# Altium schematic symbol library rmstodc.SchLib: 12 symbols
Pins are listed as number, name and electrical type; pins without a type are passive.

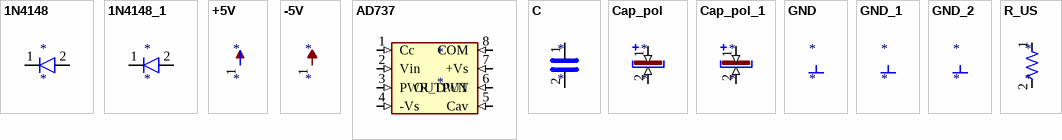
[diagram p0: symbols 1N4148 to R_US]

## 1N4148
designator *
pins: 1 K, 2 A

## 1N4148_1
designator *
pins: 1 K, 2 A

## +5V
designator *
pins: 1 +5V (power)

## -5V
designator *
pins: 1 -5V (power)

## AD737
designator *
pins: 1 Cc (in), 2 Vin (in), 3 PWR_DWN (in), 4 -Vs (in), 5 Cav (in), 6 OUTPUT (in), 7 +Vs (in), 8 COM (in)

## C
designator *
pins: 1, 2

## Cap_pol
designator *
pins: 1 (in), 2 (in)

## Cap_pol_1
designator *
pins: 1 (in), 2 (in)

## GND
designator *
pins: 1 GND (power) hidden

## GND_1
designator *
pins: 1 GND (power) hidden

## GND_2
designator *
pins: 1 GND (power) hidden

## R_US
designator *
pins: 1, 2